# Altium footprint library TPSM84209RKHT.PcbLib: 1 footprints
Each footprint in its own frame and in the unit in brackets; x right, y up, seen from the top. Pads: shape width x height; smd on the part's side, far side on the other; paste and mask are expansions set on the pad; w line width, h text height; cw(c..) or ccw(c..) is an arc to the next point about the centre after c.
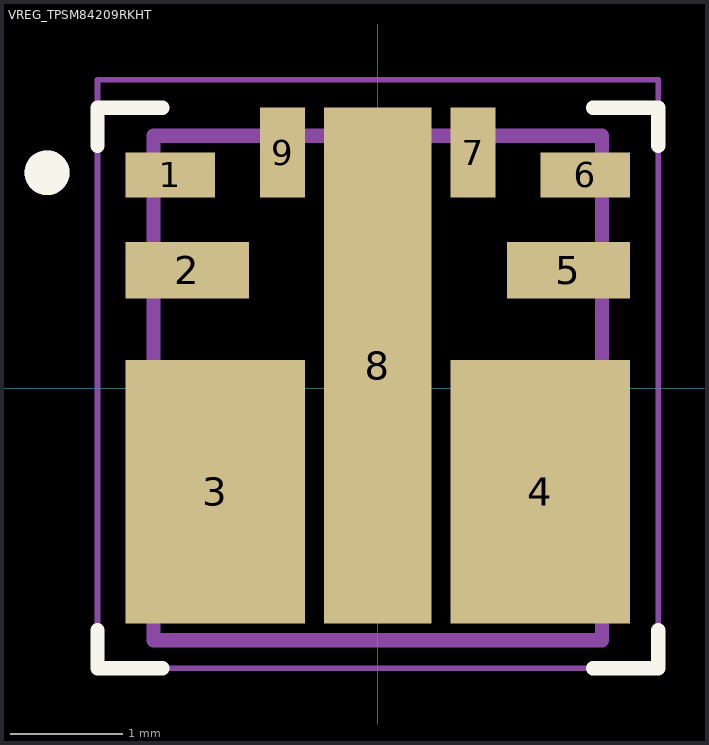
[diagram p0: the footprint, top view; thin cyan lines are the x and y axes]

## VREG_TPSM84209RKHT [mm]
pads (9):
  rect 0.8x0.4 smd paste-1 mask+0: 1(-1.85,1.9) 6(1.85,1.9)
  rect 1.1x0.5 smd paste-2 mask+0: 2(-1.7,1.05) 5(1.7,1.05)
  rect 1.6x2.35 smd paste-2 mask+0: 3(-1.45,-0.925) 4(1.45,-0.925)
  rect 0.4x0.8 smd paste-1 mask+0: 7(0.85,2.1) 9(-0.85,2.1)
  rect 0.96x4.6 smd paste-3 mask+0: 8(0,0.2)
Top Overlay:
  circle w0.2: c-2.95,1.92 r0.1
  lines w0.127: -2.5,-2.16 -2.5,-2.5 -1.92,-2.5 ; -2.5,2.16 -2.5,2.5 -1.92,2.5 ; 1.92,-2.5 2.5,-2.5 2.5,-2.16 ; 1.92,2.5 2.5,2.5 2.5,2.16
Mechanical 13:
  circle w0.2: c-2.95,1.92 r0.1
  lines w0.127: -2,-2.25 -2,2.25 2,2.25 2,-2.25 -2,-2.25
Mechanical 15:
  lines w0.05: -2.5,-2.5 -2.5,2.75 2.5,2.75 2.5,-2.5 -2.5,-2.5
3D body "step_temp.STEP": height 2.05, standoff -0.05, extent -2,-2.25 2,2.25